# Altium schematic symbol library RcCon.SchLib: 1 symbol
Pins are listed as number, name and electrical type; pins without a type are passive.

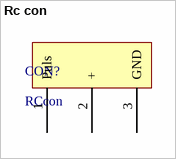
[diagram p0: symbol Rc con]

## Rc con
designator CON?, comment RCcon
footprint RcCon
pins: 1 Puls, 2 +, 3 GND